# EAGLE library part FMS3818 (library quickdev_v2)
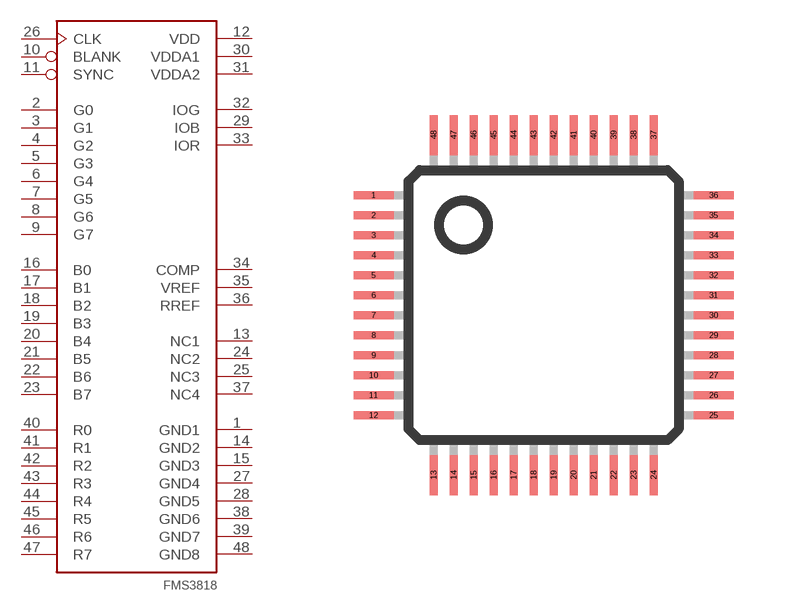
[diagram p1: symbol with the pads of LQFP48; footprint LQFP48]

Designator prefix -

## FMS3818  [LQFP48]
1  GND1  pwr
2  G0  in
3  G1  in
4  G2  in
5  G3  in
6  G4  in
7  G5  in
8  G6  in
9  G7  in
10  BLANK  in
11  SYNC  in
12  VDD  pwr
13  NC1  nc
14  GND2  pwr
15  GND3  pwr
16  B0  in
17  B1  in
18  B2  in
19  B3  in
20  B4  in
21  B5  in
22  B6  in
23  B7  in
24  NC2  nc
25  NC3  nc
26  CLK  in
27  GND4  pwr
28  GND5  pwr
29  IOB  out
30  VDDA1  pwr
31  VDDA2  pwr
32  IOG  out
33  IOR  out
34  COMP  pas
35  VREF  pas
36  RREF  pas
37  NC4  nc
38  GND6  pwr
39  GND7  pwr
40  R0  in
41  R1  in
42  R2  in
43  R3  in
44  R4  in
45  R5  in
46  R6  in
47  R7  in
48  GND8  pwr

## Footprint LQFP48 (pad centres in mm)
48-pin plastic LQFP (FPT-48P-M26) www.fma.fujitsu.com/pdf/e713717.pdf
smd 1 x 0.2: 1 -4.25,2.75; 2 -4.25,2.25; 3 -4.25,1.75; 4 -4.25,1.25; 5 -4.25,0.75; 6 -4.25,0.25; 7 -4.25,-0.25; 8 -4.25,-0.75; 9 -4.25,-1.25; 10 -4.25,-1.75; 11 -4.25,-2.25; 12 -4.25,-2.75; 25 4.25,-2.75; 26 4.25,-2.25; 27 4.25,-1.75; 28 4.25,-1.25; 29 4.25,-0.75; 30 4.25,-0.25; 31 4.25,0.25; 32 4.25,0.75; 33 4.25,1.25; 34 4.25,1.75; 35 4.25,2.25; 36 4.25,2.75
smd 0.2 x 1: 13 -2.75,-4.25; 14 -2.25,-4.25; 15 -1.75,-4.25; 16 -1.25,-4.25; 17 -0.75,-4.25; 18 -0.25,-4.25; 19 0.25,-4.25; 20 0.75,-4.25; 21 1.25,-4.25; 22 1.75,-4.25; 23 2.25,-4.25; 24 2.75,-4.25; 37 2.75,4.25; 38 2.25,4.25; 39 1.75,4.25; 40 1.25,4.25; 41 0.75,4.25; 42 0.25,4.25; 43 -0.25,4.25; 44 -0.75,4.25; 45 -1.25,4.25; 46 -1.75,4.25; 47 -2.25,4.25; 48 -2.75,4.25